# Altium schematic symbol library TB6560AHQ_8.SchLib: 1 symbol
Pins are listed as number, name and electrical type; pins without a type are passive.

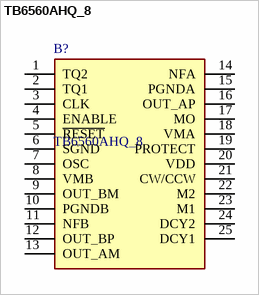
[diagram p0: symbol TB6560AHQ_8]

## TB6560AHQ_8
designator B?
Motor / Motion / Ignition Controllers & Drivers Stepping Motor Driver IC; Manufacturer_Name: Toshiba; Manufacturer_Part_Number: TB6560AHQ,8; Geometry.Height: 5.3mm; TTI Part Number: *; TTI Price/Stock: *; Datasheet Link: http://toshiba.semicon-storage.com/info/docget.jsp?did=11252&prodName=TB6560AHQ
footprint TO127P530X3650X1770-25P
pins: 1 TQ2, 2 TQ1, 3 CLK, 4 ENABLE, 5 ~{RESET}, 6 SGND, 7 OSC, 8 VMB, 9 OUT_BM, 10 PGNDB, 11 NFB, 12 OUT_BP, 13 OUT_AM, 14 NFA, 15 PGNDA, 16 OUT_AP, 17 MO, 18 VMA, 19 PROTECT, 20 VDD, 21 CW/CCW, 22 M2, 23 M1, 24 DCY2, 25 DCY1